# EAGLE library part FOUR_POTS_V1.0 (library PedalSync_Module_Footprint_Library_v2)
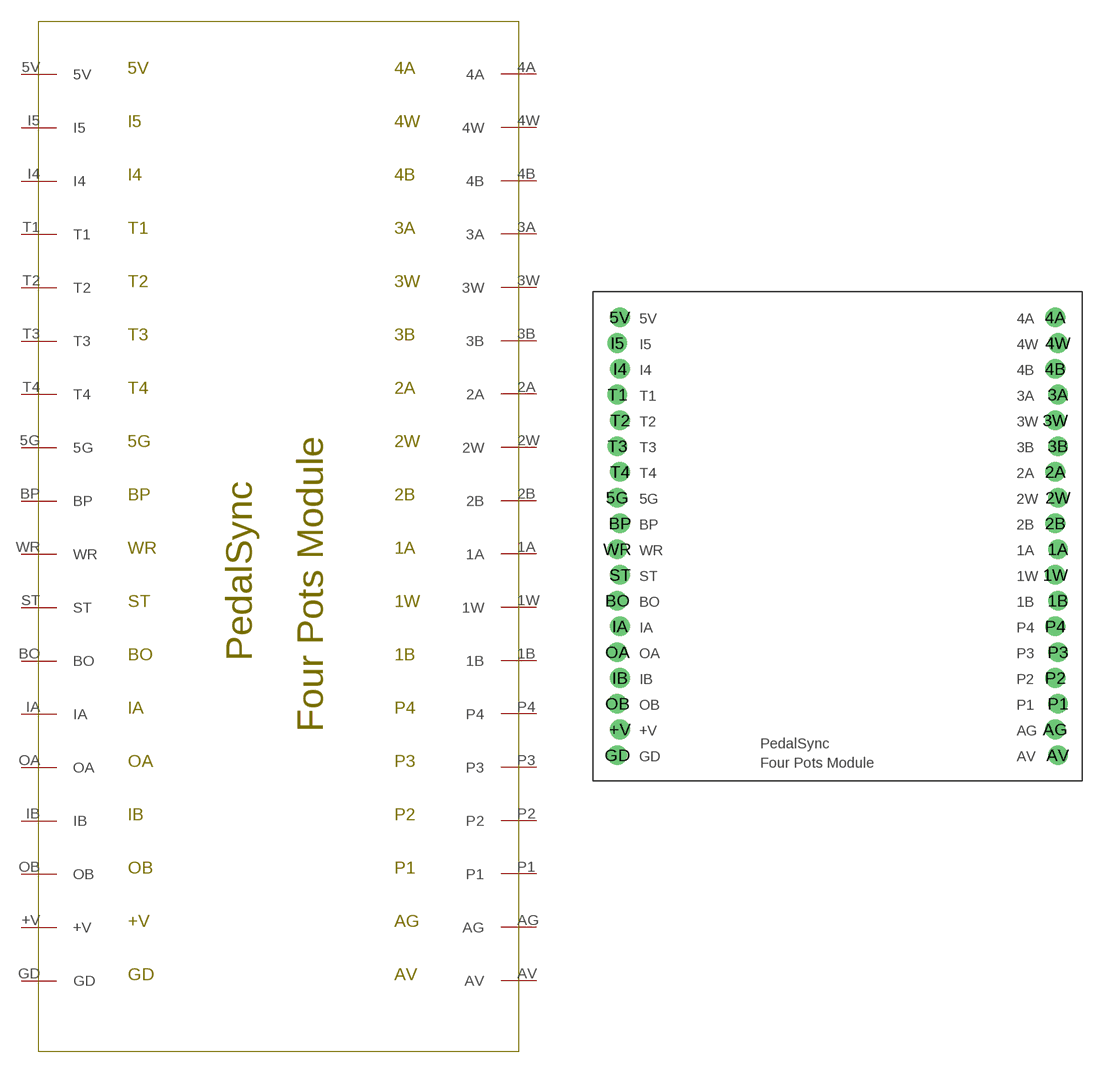
[diagram p3: symbol with the pads of FOUR_POTS_V1.0; footprint FOUR_POTS_V1.0]

Designator prefix -

## FOUR_POTS_V1.0  [FOUR_POTS_V1.0]
1A  1A
1B  1B
1W  1W
2A  2A
2B  2B
2W  2W
3A  3A
3B  3B
3W  3W
4A  4A
4B  4B
4W  4W
5G  5G
5V  5V
+V  +V
AG  AG
AV  AV
BO  BO
BP  BP
GD  GD
I4  I4
I5  I5
IA  IA
IB  IB
OA  OA
OB  OB
P1  P1
P2  P2
P3  P3
P4  P4
ST  ST
T1  T1
T2  T2
T3  T3
T4  T4
WR  WR

## Footprint FOUR_POTS_V1.0 (pad centres in mm)
drill 0.9 pad 1.93 round: 1A 45.847,22.86; 1B 45.847,17.78; 1W 45.593,20.32; 2A 45.593,30.48; 2B 45.593,25.4; 2W 45.847,27.94; 3A 45.847,38.1; 3B 45.847,33.02; 3W 45.593,35.56; 4A 45.593,45.72; 4B 45.593,40.64; 4W 45.847,43.18; 5G 2.413,27.94; 5V 2.667,45.72; +V 2.667,5.08; AG 45.593,5.08; AV 45.847,2.54; BO 2.413,17.78; BP 2.667,25.4; GD 2.413,2.54; I4 2.667,40.64; I5 2.413,43.18; IA 2.667,15.24; IB 2.667,10.16; OA 2.413,12.7; OB 2.413,7.62; P1 45.847,7.62; P2 45.593,10.16; P3 45.847,12.7; P4 45.593,15.24; ST 2.667,20.32; T1 2.413,38.1; T2 2.667,35.56; T3 2.413,33.02; T4 2.667,30.48; WR 2.413,22.86